# Altium schematic symbol library SiWG917.SchLib: 1 symbol
Pins are listed as number, name and electrical type; pins without a type are passive.

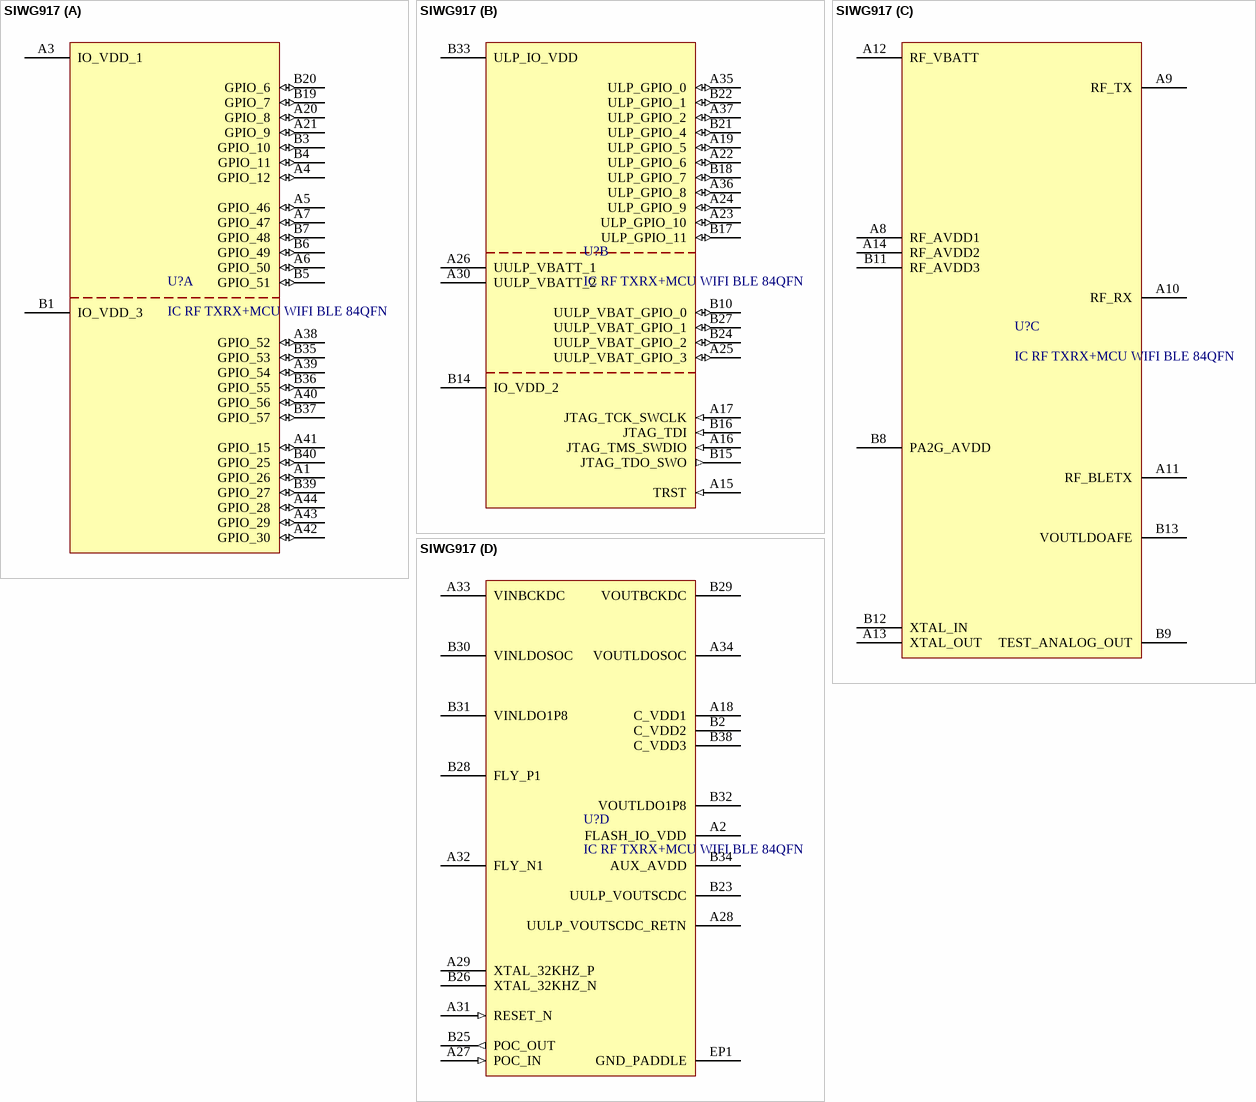
[diagram p0: symbol SIWG917]

## SIWG917
designator U?, comment IC RF TXRX+MCU WIFI BLE 84QFN
footprint SIWG917M110LGTBA
part A pins: A1 GPIO_26 (io), A3 IO_VDD_1 (power), A4 GPIO_12 (io), A5 GPIO_46 (io), A6 GPIO_50 (io), A7 GPIO_47 (io), A20 GPIO_8 (io), A21 GPIO_9 (io), A38 GPIO_52 (io), A39 GPIO_54 (io), A40 GPIO_56 (io), A41 GPIO_15 (io), A42 GPIO_30 (io), A43 GPIO_29 (io), A44 GPIO_28 (io), B1 IO_VDD_3 (power), B3 GPIO_10 (io), B4 GPIO_11 (io), B5 GPIO_51 (io), B6 GPIO_49 (io), B7 GPIO_48 (io), B19 GPIO_7 (io), B20 GPIO_6 (io), B35 GPIO_53 (io), B36 GPIO_55 (io), B37 GPIO_57 (io), B39 GPIO_27 (io), B40 GPIO_25 (io)
part B pins: A15 TRST (in), A16 JTAG_TMS_SWDIO (in), A17 JTAG_TCK_SWCLK (in), A19 ULP_GPIO_5 (io), A22 ULP_GPIO_6 (io), A23 ULP_GPIO_10 (io), A24 ULP_GPIO_9 (io), A25 UULP_VBAT_GPIO_3 (io), A26 UULP_VBATT_1 (power), A30 UULP_VBATT_2 (power), A35 ULP_GPIO_0 (io), A36 ULP_GPIO_8 (io), A37 ULP_GPIO_2 (io), B10 UULP_VBAT_GPIO_0 (io), B14 IO_VDD_2 (power), B15 JTAG_TDO_SWO (out), B16 JTAG_TDI (in), B17 ULP_GPIO_11 (io), B18 ULP_GPIO_7 (io), B21 ULP_GPIO_4 (io), B22 ULP_GPIO_1 (io), B24 UULP_VBAT_GPIO_2 (io), B27 UULP_VBAT_GPIO_1 (io), B33 ULP_IO_VDD (power)
part C pins: A8 RF_AVDD1 (power), A9 RF_TX, A10 RF_RX, A11 RF_BLETX, A12 RF_VBATT (power), A13 XTAL_OUT, A14 RF_AVDD2 (power), B8 PA2G_AVDD (power), B9 TEST_ANALOG_OUT, B11 RF_AVDD3 (power), B12 XTAL_IN, B13 VOUTLDOAFE (power)
part D pins: A2 FLASH_IO_VDD (power), A18 C_VDD1 (power), A27 POC_IN (in), A28 UULP_VOUTSCDC_RETN, A29 XTAL_32KHZ_P, A31 RESET_N (in), A32 FLY_N1, A33 VINBCKDC (power), A34 VOUTLDOSOC (power), B2 C_VDD2 (power), B23 UULP_VOUTSCDC, B25 POC_OUT (out), B26 XTAL_32KHZ_N, B28 FLY_P1, B29 VOUTBCKDC (power), B30 VINLDOSOC (power), B31 VINLDO1P8 (power), B32 VOUTLDO1P8 (power), B34 AUX_AVDD, B38 C_VDD3 (power), EP1 GND_PADDLE (power)